# Altium schematic symbol library BWSMA-KE-Z001.SCHLIB: 1 symbol
Pins are listed as number, name and electrical type; pins without a type are passive.

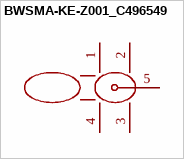
[diagram p0: symbol BWSMA-KE-Z001_C496549]

## BWSMA-KE-Z001_C496549
designator RF??, comment BWSMA-KE-Z001  (value not drawn)
Manufacturer: BAT WIRELESS(蝙蝠无线); Device: BWSMA-KE-Z001_C496549; Add into BOM: yes; Connector Type: 板端; Interface Type: 内孔; Number of Ports: 1; RF Series: SMA; Impedance: 50Ω; Style: 正脚; Symbol: BWSMA-KE-Z001; LCSC Part Name: 内孔 SMA 正脚; Supplier Part: C496549; Manufacturer Part: BWSMA-KE-Z001; Supplier Footprint: 插件; JLCPCB Part Class: Extended Part; Datasheet: https://atta.szlcsc.com/upload/public/pdf/source/20221228/40BF41E56A06003A0210E1785CA66EA6.pdf; Supplier: LCSC; Convert to PCB: yes; Interface Diameter: -; Interface Length/Height: -; Frequency-Max: -; Contact Material: -; Contact Plating: -; Operating Temperature Range: -65℃~+165℃; Soldering Temperature(Max): -
footprint SMA-TH_BWSMA-KE-Z001
pins: 1, 2, 3, 4, 5